# Altium footprint library CAPPOL-16x40.PcbLib: 1 footprints
Each footprint in its own frame and in the unit in brackets; x right, y up, seen from the top. Pads: shape width x height; smd on the part's side, far side on the other; paste and mask are expansions set on the pad; w line width, h text height; cw(c..) or ccw(c..) is an arc to the next point about the centre after c.
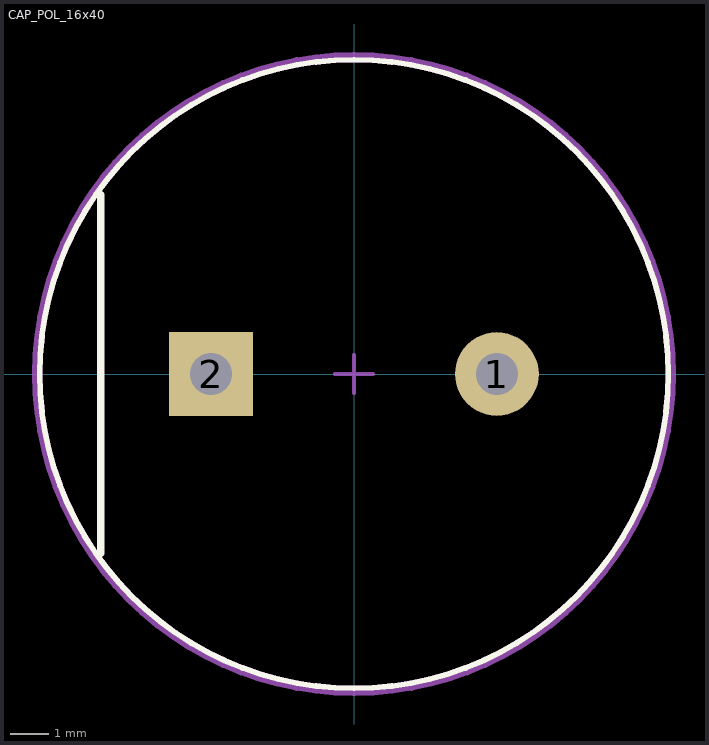
[diagram p0: the footprint, top view; thin cyan lines are the x and y axes]

## CAP_POL_16x40 [mm]
pads (2):
  round 2.2 hole 1.1 paste-2539.97 mask+0: 1(3.75,0)
  rect 2.2x2.2 hole 1.1 paste-2539.97 mask+0: 2(-3.75,0)
Top Overlay:
  circle w0.15: c0,0 r8.25
  lines w0.2: -6.65,-4.7 -6.65,4.7
Top 3D Body:
  circle w0.15: c0,0 r8.25
Top Assembly:
  text ".Designator" at 0,0.188 h1
Top Component Center:
  lines w0.1: -0.5,0 0.5,0 ; 0,-0.5 0,0.5
Top Courtyard:
  lines w0.2: -8.35,0 ccw(c0,0) 8.35,0 ccw(c0,0) -8.35,0
3D body "Cap_Panasonic_EEUFC2A471_eec.STEP": height 42, standoff -4, extent -8,-8.01 8,7.998